# Altium schematic symbol library dip_switch_3p.SchLib: 1 symbol
Pins are listed as number, name and electrical type; pins without a type are passive.

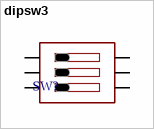
[diagram p0: symbol dipsw3]

## dipsw3
designator SW?  (value not drawn)
footprint DIP3_SW
pins: 1, 2, 3, 4, 5, 6